# Altium footprint library SO-24.PcbLib: 1 footprints
Each footprint in its own frame and in the unit in brackets; x right, y up, seen from the top. Pads: shape width x height; smd on the part's side, far side on the other; paste and mask are expansions set on the pad; w line width, h text height; cw(c..) or ccw(c..) is an arc to the next point about the centre after c.
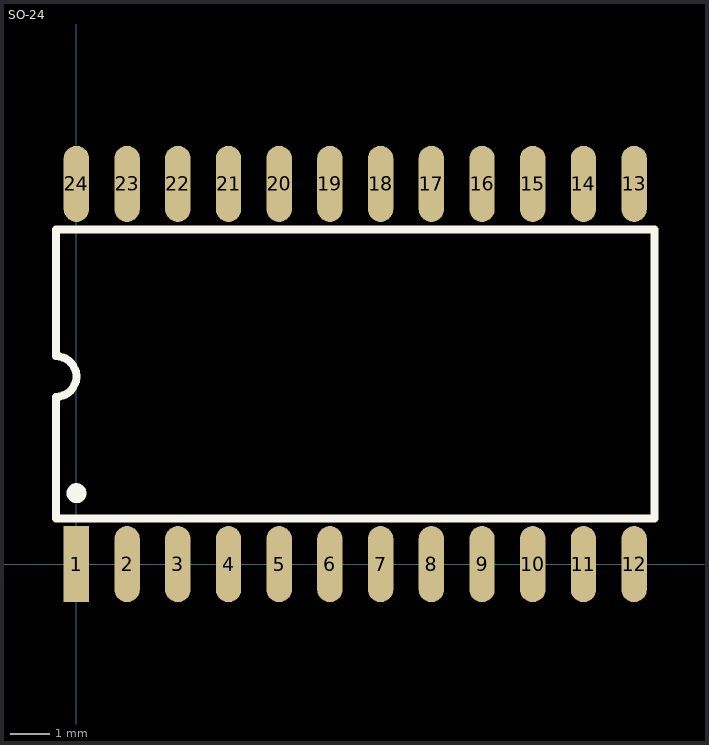
[diagram p0: the footprint, top view; thin cyan lines are the x and y axes]

## SO-24 [mil]
pads (24):
  rect 25x75 smd: 1(0,0)
  oval 25x75 smd: 2(50,0) 3(100,0) 4(150,0) 5(200,0) 6(250,0) 7(300,0) 8(350,0) 9(400,0) 10(450,0) 11(500,0) 12(550,0) 13(550,375) 14(500,375) 15(450,375) 16(400,375) 17(350,375) 18(300,375) 19(250,375) 20(200,375) 21(150,375) 22(100,375) 23(50,375) 24(0,375)
Top Overlay:
  circle w9.84: c0.08,70 r4.92
  lines w7.87: -20,45 -20,165 ccw(c-20,185) -20,205 -20,330 570,330 570,45 -20,45